# EAGLE library part 74AHCT541 (library alvie)
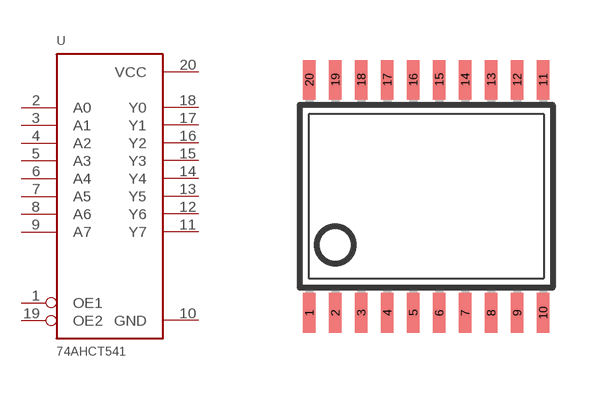
[diagram p66: symbol with the pads of TSSOP20; footprint TSSOP20]

Designator prefix -

## 74AHCT541PW  [TSSOP20]
1  OE1  in
2  A0  in
3  A1  in
4  A2  in
5  A3  in
6  A4  in
7  A5  in
8  A6  in
9  A7  in
10  GND  pwr
11  Y7  out
12  Y6  out
13  Y5  out
14  Y4  out
15  Y3  out
16  Y2  out
17  Y1  out
18  Y0  out
19  OE2  in
20  VCC  pwr

## Footprint TSSOP20 (pad centres in mm)
smd 0.305 x 0.991: 1 -2.925,-2.918; 2 -2.275,-2.918; 3 -1.625,-2.918; 4 -0.975,-2.918; 5 -0.325,-2.918; 6 0.325,-2.918; 7 0.975,-2.918; 8 1.625,-2.918; 9 2.275,-2.918; 10 2.925,-2.918; 11 2.925,2.918; 12 2.275,2.918; 13 1.625,2.918; 14 0.975,2.918; 15 0.325,2.918; 16 -0.325,2.918; 17 -0.975,2.918; 18 -1.625,2.918; 19 -2.275,2.918; 20 -2.925,2.918